# Altium footprint library TerminalBlock_Phoenix.PcbLib: 126 footprints (part 6 of 8)
Each footprint in its own frame and in the unit in brackets; x right, y up, seen from the top. Pads: shape width x height; smd on the part's side, far side on the other; paste and mask are expansions set on the pad; w line width, h text height; cw(c..) or ccw(c..) is an arc to the next point about the centre after c.
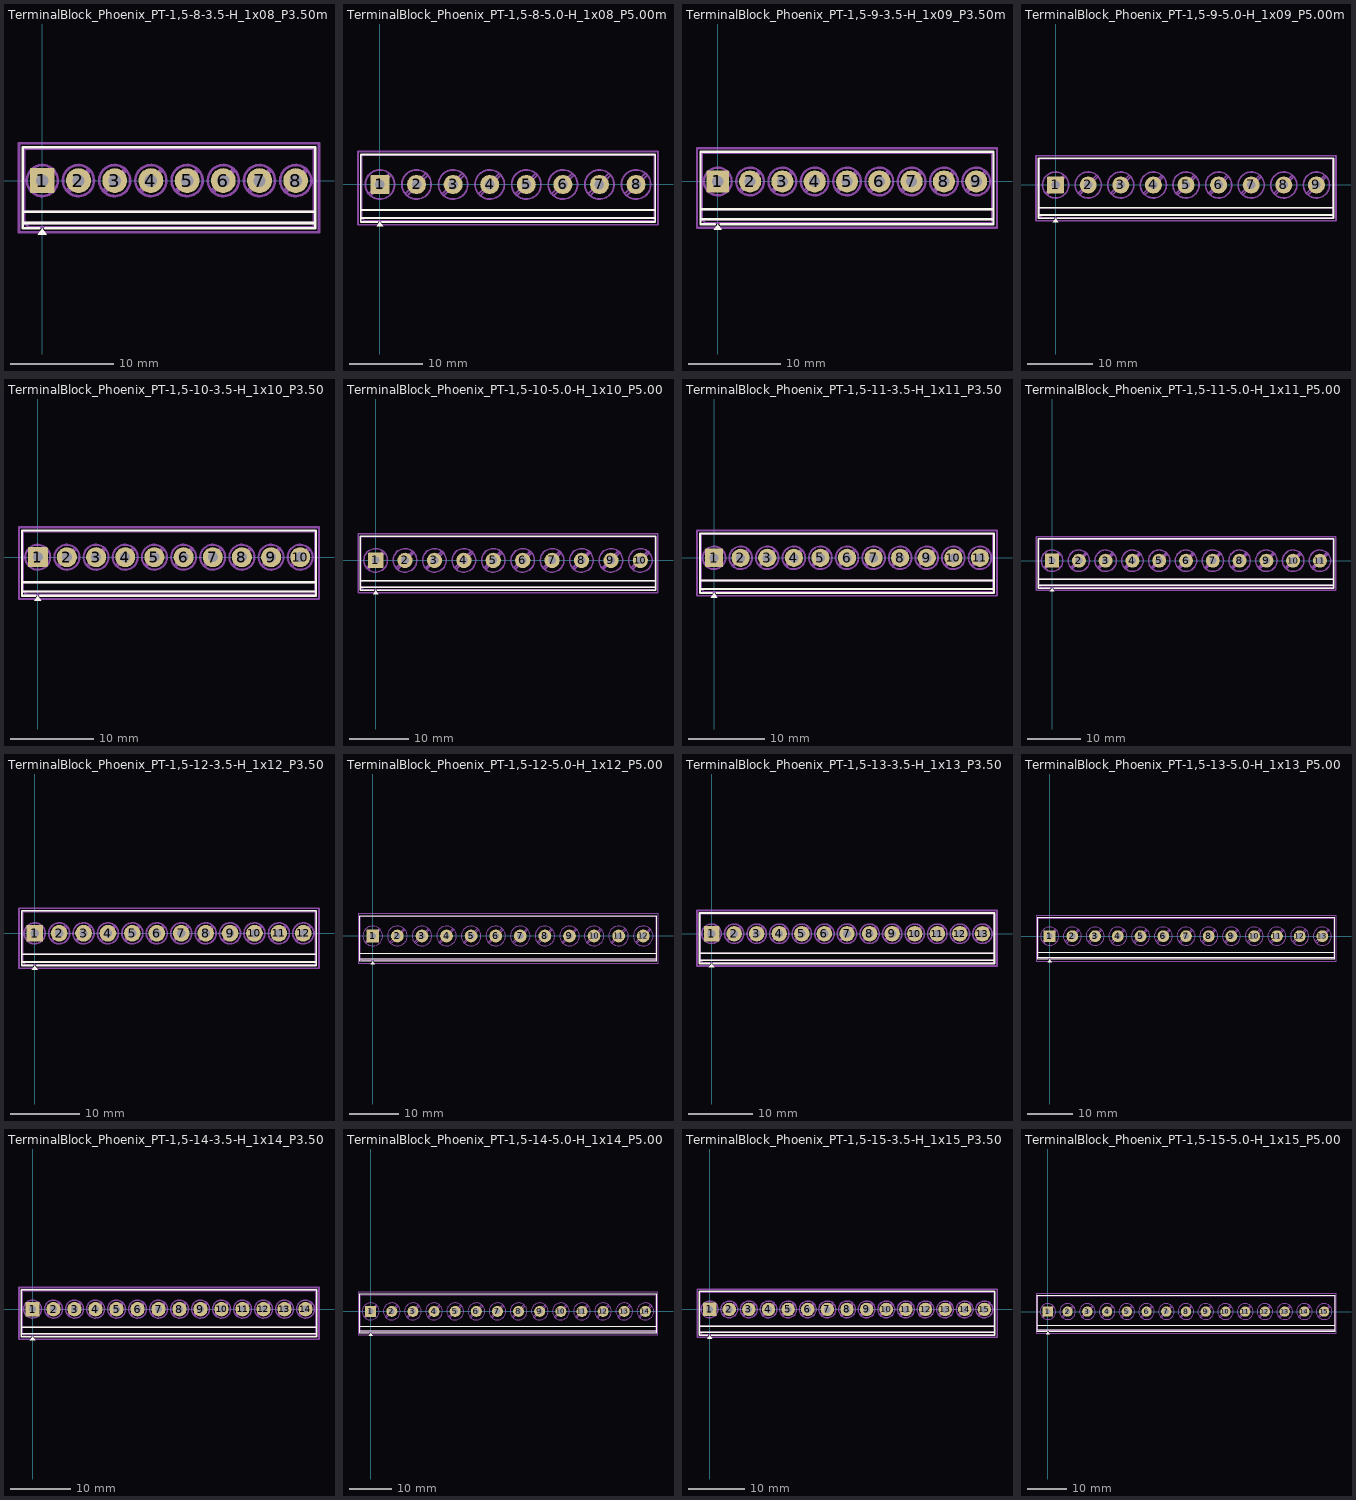
[diagram p5: the footprints below, top view; thin cyan lines are the x and y axes]

## TerminalBlock_Phoenix_PT-1,5-8-3.5-H_1x08_P3.50mm_Horizontal [mm]
pads (8):
  rrect10% 2.4x2.4 hole 1.2: 1(0,0)
  round 2.4 hole 1.2: 2(3.5,0) 3(7,0) 4(10.5,0) 5(14,0) 6(17.5,0) 7(21,0) 8(24.5,0)
F.SilkS:
  region: 0.44,-5.23 -0.44,-5.23 0,-4.62
  lines w0.254: -1.87,-4.1 26.37,-4.1 ; -1.87,-3 26.37,-3 ; -0.3,-4.62 -1.87,-4.62 -1.87,3.22 26.37,3.22 26.37,-4.62 0.3,-4.62
F.Fab:
  circle w0.254: c0,0 r1.5
  circle w0.254: c3.5,0 r1.5
  circle w0.254: c7,0 r1.5
  circle w0.254: c10.5,0 r1.5
  circle w0.254: c14,0 r1.5
  circle w0.254: c17.5,0 r1.5
  circle w0.254: c21,0 r1.5
  circle w0.254: c24.5,0 r1.5
  lines w0.254: -1.75,-3 26.25,-3 ; -1.138,-0.955 0.955,1.138 ; -0.955,-1.138 1.138,0.955 ; 2.362,-0.955 4.455,1.138 ; 2.545,-1.138 4.638,0.955 ; 5.862,-0.955 7.955,1.138 ; 6.045,-1.138 8.138,0.955 ; 9.362,-0.955 11.455,1.138 ; 9.545,-1.138 11.638,0.955 ; 12.862,-0.955 14.955,1.138 ; 13.045,-1.138 15.138,0.955 ; 16.362,-0.955 18.455,1.138 ; 16.545,-1.138 18.638,0.955 ; 19.862,-0.955 21.955,1.138 ; 20.045,-1.138 22.138,0.955 ; 23.362,-0.955 25.455,1.138 ; 23.545,-1.138 25.638,0.955 ; 26.25,-4.1 -1.75,-4.1 ; -1.75,-4.1 -1.75,3.1 26.25,3.1 26.25,-4.5 -1.35,-4.5 -1.75,-4.1
  text "'.Designator'" at 8.203,-3.24 h1
F.CrtYd:
  lines w0.254: -2.25,-5 -2.25,3.6 26.75,3.6 26.75,-5 -2.25,-5

## TerminalBlock_Phoenix_PT-1,5-8-5.0-H_1x08_P5.00mm_Horizontal [mm]
pads (8):
  rrect10% 2.6x2.6 hole 1.3: 1(0,0)
  round 2.6 hole 1.3: 2(5,0) 3(10,0) 4(15,0) 5(20,0) 6(25,0) 7(30,0) 8(35,0)
F.SilkS:
  region: 0.44,-5.73 -0.44,-5.73 0,-5.12
  lines w0.254: -2.62,-4.6 37.62,-4.6 ; -2.62,-3.5 37.62,-3.5 ; -0.3,-5.12 -2.62,-5.12 -2.62,4.12 37.62,4.12 37.62,-5.12 0.3,-5.12
F.Fab:
  circle w0.254: c0,0 r2
  circle w0.254: c5,0 r2
  circle w0.254: c10,0 r2
  circle w0.254: c15,0 r2
  circle w0.254: c20,0 r2
  circle w0.254: c25,0 r2
  circle w0.254: c30,0 r2
  circle w0.254: c35,0 r2
  lines w0.254: -2.5,-3.5 37.5,-3.5 ; -1.517,-1.273 1.273,1.517 ; -1.273,-1.517 1.517,1.273 ; 3.483,-1.273 6.273,1.517 ; 3.727,-1.517 6.517,1.273 ; 8.483,-1.273 11.273,1.517 ; 8.727,-1.517 11.517,1.273 ; 13.483,-1.273 16.273,1.517 ; 13.727,-1.517 16.517,1.273 ; 18.483,-1.273 21.273,1.517 ; 18.727,-1.517 21.517,1.273 ; 23.483,-1.273 26.273,1.517 ; 23.727,-1.517 26.517,1.273 ; 28.483,-1.273 31.273,1.517 ; 28.727,-1.517 31.517,1.273 ; 33.483,-1.273 36.273,1.517 ; 33.727,-1.517 36.517,1.273 ; 37.5,-4.6 -2.5,-4.6 ; -2.5,-4.6 -2.5,4 37.5,4 37.5,-5 -2.1,-5 -2.5,-4.6
  text "'.Designator'" at 13.453,-3.74 h1
F.CrtYd:
  lines w0.254: -3,-5.5 -3,4.5 38,4.5 38,-5.5 -3,-5.5

## TerminalBlock_Phoenix_PT-1,5-9-3.5-H_1x09_P3.50mm_Horizontal [mm]
pads (9):
  rrect10% 2.4x2.4 hole 1.2: 1(0,0)
  round 2.4 hole 1.2: 2(3.5,0) 3(7,0) 4(10.5,0) 5(14,0) 6(17.5,0) 7(21,0) 8(24.5,0) 9(28,0)
F.SilkS:
  region: 0.44,-5.23 -0.44,-5.23 0,-4.62
  lines w0.254: -1.87,-4.1 29.87,-4.1 ; -1.87,-3 29.87,-3 ; -0.3,-4.62 -1.87,-4.62 -1.87,3.22 29.87,3.22 29.87,-4.62 0.3,-4.62
F.Fab:
  circle w0.254: c0,0 r1.5
  circle w0.254: c3.5,0 r1.5
  circle w0.254: c7,0 r1.5
  circle w0.254: c10.5,0 r1.5
  circle w0.254: c14,0 r1.5
  circle w0.254: c17.5,0 r1.5
  circle w0.254: c21,0 r1.5
  circle w0.254: c24.5,0 r1.5
  circle w0.254: c28,0 r1.5
  lines w0.254: -1.75,-3 29.75,-3 ; -1.138,-0.955 0.955,1.138 ; -0.955,-1.138 1.138,0.955 ; 2.362,-0.955 4.455,1.138 ; 2.545,-1.138 4.638,0.955 ; 5.862,-0.955 7.955,1.138 ; 6.045,-1.138 8.138,0.955 ; 9.362,-0.955 11.455,1.138 ; 9.545,-1.138 11.638,0.955 ; 12.862,-0.955 14.955,1.138 ; 13.045,-1.138 15.138,0.955 ; 16.362,-0.955 18.455,1.138 ; 16.545,-1.138 18.638,0.955 ; 19.862,-0.955 21.955,1.138 ; 20.045,-1.138 22.138,0.955 ; 23.362,-0.955 25.455,1.138 ; 23.545,-1.138 25.638,0.955 ; 26.862,-0.955 28.955,1.138 ; 27.045,-1.138 29.138,0.955 ; 29.75,-4.1 -1.75,-4.1 ; -1.75,-4.1 -1.75,3.1 29.75,3.1 29.75,-4.5 -1.35,-4.5 -1.75,-4.1
  text "'.Designator'" at 9.953,-3.24 h1
F.CrtYd:
  lines w0.254: -2.25,-5 -2.25,3.6 30.25,3.6 30.25,-5 -2.25,-5

## TerminalBlock_Phoenix_PT-1,5-9-5.0-H_1x09_P5.00mm_Horizontal [mm]
pads (9):
  rrect10% 2.6x2.6 hole 1.3: 1(0,0)
  round 2.6 hole 1.3: 2(5,0) 3(10,0) 4(15,0) 5(20,0) 6(25,0) 7(30,0) 8(35,0) 9(40,0)
F.SilkS:
  region: 0.44,-5.73 -0.44,-5.73 0,-5.12
  lines w0.254: -2.62,-4.6 42.62,-4.6 ; -2.62,-3.5 42.62,-3.5 ; -0.3,-5.12 -2.62,-5.12 -2.62,4.12 42.62,4.12 42.62,-5.12 0.3,-5.12
F.Fab:
  circle w0.254: c0,0 r2
  circle w0.254: c5,0 r2
  circle w0.254: c10,0 r2
  circle w0.254: c15,0 r2
  circle w0.254: c20,0 r2
  circle w0.254: c25,0 r2
  circle w0.254: c30,0 r2
  circle w0.254: c35,0 r2
  circle w0.254: c40,0 r2
  lines w0.254: -2.5,-3.5 42.5,-3.5 ; -1.517,-1.273 1.273,1.517 ; -1.273,-1.517 1.517,1.273 ; 3.483,-1.273 6.273,1.517 ; 3.727,-1.517 6.517,1.273 ; 8.483,-1.273 11.273,1.517 ; 8.727,-1.517 11.517,1.273 ; 13.483,-1.273 16.273,1.517 ; 13.727,-1.517 16.517,1.273 ; 18.483,-1.273 21.273,1.517 ; 18.727,-1.517 21.517,1.273 ; 23.483,-1.273 26.273,1.517 ; 23.727,-1.517 26.517,1.273 ; 28.483,-1.273 31.273,1.517 ; 28.727,-1.517 31.517,1.273 ; 33.483,-1.273 36.273,1.517 ; 33.727,-1.517 36.517,1.273 ; 38.483,-1.273 41.273,1.517 ; 38.727,-1.517 41.517,1.273 ; 42.5,-4.6 -2.5,-4.6 ; -2.5,-4.6 -2.5,4 42.5,4 42.5,-5 -2.1,-5 -2.5,-4.6
  text "'.Designator'" at 15.953,-3.74 h1
F.CrtYd:
  lines w0.254: -3,-5.5 -3,4.5 43,4.5 43,-5.5 -3,-5.5

## TerminalBlock_Phoenix_PT-1,5-10-3.5-H_1x10_P3.50mm_Horizontal [mm]
pads (10):
  rrect10% 2.4x2.4 hole 1.2: 1(0,0)
  round 2.4 hole 1.2: 2(3.5,0) 3(7,0) 4(10.5,0) 5(14,0) 6(17.5,0) 7(21,0) 8(24.5,0) 9(28,0) 10(31.5,0)
F.SilkS:
  region: 0.44,-5.23 -0.44,-5.23 0,-4.62
  lines w0.254: -1.87,-4.1 33.37,-4.1 ; -1.87,-3 33.37,-3 ; -0.3,-4.62 -1.87,-4.62 -1.87,3.22 33.37,3.22 33.37,-4.62 0.3,-4.62
F.Fab:
  circle w0.254: c0,0 r1.5
  circle w0.254: c3.5,0 r1.5
  circle w0.254: c7,0 r1.5
  circle w0.254: c10.5,0 r1.5
  circle w0.254: c14,0 r1.5
  circle w0.254: c17.5,0 r1.5
  circle w0.254: c21,0 r1.5
  circle w0.254: c24.5,0 r1.5
  circle w0.254: c28,0 r1.5
  circle w0.254: c31.5,0 r1.5
  lines w0.254: -1.75,-3 33.25,-3 ; -1.138,-0.955 0.955,1.138 ; -0.955,-1.138 1.138,0.955 ; 2.362,-0.955 4.455,1.138 ; 2.545,-1.138 4.638,0.955 ; 5.862,-0.955 7.955,1.138 ; 6.045,-1.138 8.138,0.955 ; 9.362,-0.955 11.455,1.138 ; 9.545,-1.138 11.638,0.955 ; 12.862,-0.955 14.955,1.138 ; 13.045,-1.138 15.138,0.955 ; 16.362,-0.955 18.455,1.138 ; 16.545,-1.138 18.638,0.955 ; 19.862,-0.955 21.955,1.138 ; 20.045,-1.138 22.138,0.955 ; 23.362,-0.955 25.455,1.138 ; 23.545,-1.138 25.638,0.955 ; 26.862,-0.955 28.955,1.138 ; 27.045,-1.138 29.138,0.955 ; 30.362,-0.955 32.455,1.138 ; 30.545,-1.138 32.638,0.955 ; 33.25,-4.1 -1.75,-4.1 ; -1.75,-4.1 -1.75,3.1 33.25,3.1 33.25,-4.5 -1.35,-4.5 -1.75,-4.1
  text "'.Designator'" at 11.703,-3.24 h1
F.CrtYd:
  lines w0.254: -2.25,-5 -2.25,3.6 33.75,3.6 33.75,-5 -2.25,-5

## TerminalBlock_Phoenix_PT-1,5-10-5.0-H_1x10_P5.00mm_Horizontal [mm]
pads (10):
  rrect10% 2.6x2.6 hole 1.3: 1(0,0)
  round 2.6 hole 1.3: 2(5,0) 3(10,0) 4(15,0) 5(20,0) 6(25,0) 7(30,0) 8(35,0) 9(40,0) 10(45,0)
F.SilkS:
  region: 0.44,-5.73 -0.44,-5.73 0,-5.12
  lines w0.254: -2.62,-4.6 47.62,-4.6 ; -2.62,-3.5 47.62,-3.5 ; -0.3,-5.12 -2.62,-5.12 -2.62,4.12 47.62,4.12 47.62,-5.12 0.3,-5.12
F.Fab:
  circle w0.254: c0,0 r2
  circle w0.254: c5,0 r2
  circle w0.254: c10,0 r2
  circle w0.254: c15,0 r2
  circle w0.254: c20,0 r2
  circle w0.254: c25,0 r2
  circle w0.254: c30,0 r2
  circle w0.254: c35,0 r2
  circle w0.254: c40,0 r2
  circle w0.254: c45,0 r2
  lines w0.254: -2.5,-3.5 47.5,-3.5 ; -1.517,-1.273 1.273,1.517 ; -1.273,-1.517 1.517,1.273 ; 3.483,-1.273 6.273,1.517 ; 3.727,-1.517 6.517,1.273 ; 8.483,-1.273 11.273,1.517 ; 8.727,-1.517 11.517,1.273 ; 13.483,-1.273 16.273,1.517 ; 13.727,-1.517 16.517,1.273 ; 18.483,-1.273 21.273,1.517 ; 18.727,-1.517 21.517,1.273 ; 23.483,-1.273 26.273,1.517 ; 23.727,-1.517 26.517,1.273 ; 28.483,-1.273 31.273,1.517 ; 28.727,-1.517 31.517,1.273 ; 33.483,-1.273 36.273,1.517 ; 33.727,-1.517 36.517,1.273 ; 38.483,-1.273 41.273,1.517 ; 38.727,-1.517 41.517,1.273 ; 43.483,-1.273 46.273,1.517 ; 43.727,-1.517 46.517,1.273 ; 47.5,-4.6 -2.5,-4.6 ; -2.5,-4.6 -2.5,4 47.5,4 47.5,-5 -2.1,-5 -2.5,-4.6
  text "'.Designator'" at 18.453,-3.74 h1
F.CrtYd:
  lines w0.254: -3,-5.5 -3,4.5 48,4.5 48,-5.5 -3,-5.5

## TerminalBlock_Phoenix_PT-1,5-11-3.5-H_1x11_P3.50mm_Horizontal [mm]
pads (11):
  rrect10% 2.4x2.4 hole 1.2: 1(0,0)
  round 2.4 hole 1.2: 2(3.5,0) 3(7,0) 4(10.5,0) 5(14,0) 6(17.5,0) 7(21,0) 8(24.5,0) 9(28,0) 10(31.5,0) 11(35,0)
F.SilkS:
  region: 0.44,-5.23 -0.44,-5.23 0,-4.62
  lines w0.254: -1.87,-4.1 36.87,-4.1 ; -1.87,-3 36.87,-3 ; -0.3,-4.62 -1.87,-4.62 -1.87,3.22 36.87,3.22 36.87,-4.62 0.3,-4.62
F.Fab:
  circle w0.254: c0,0 r1.5
  circle w0.254: c3.5,0 r1.5
  circle w0.254: c7,0 r1.5
  circle w0.254: c10.5,0 r1.5
  circle w0.254: c14,0 r1.5
  circle w0.254: c17.5,0 r1.5
  circle w0.254: c21,0 r1.5
  circle w0.254: c24.5,0 r1.5
  circle w0.254: c28,0 r1.5
  circle w0.254: c31.5,0 r1.5
  circle w0.254: c35,0 r1.5
  lines w0.254: -1.75,-3 36.75,-3 ; -1.138,-0.955 0.955,1.138 ; -0.955,-1.138 1.138,0.955 ; 2.362,-0.955 4.455,1.138 ; 2.545,-1.138 4.638,0.955 ; 5.862,-0.955 7.955,1.138 ; 6.045,-1.138 8.138,0.955 ; 9.362,-0.955 11.455,1.138 ; 9.545,-1.138 11.638,0.955 ; 12.862,-0.955 14.955,1.138 ; 13.045,-1.138 15.138,0.955 ; 16.362,-0.955 18.455,1.138 ; 16.545,-1.138 18.638,0.955 ; 19.862,-0.955 21.955,1.138 ; 20.045,-1.138 22.138,0.955 ; 23.362,-0.955 25.455,1.138 ; 23.545,-1.138 25.638,0.955 ; 26.862,-0.955 28.955,1.138 ; 27.045,-1.138 29.138,0.955 ; 30.362,-0.955 32.455,1.138 ; 30.545,-1.138 32.638,0.955 ; 33.862,-0.955 35.955,1.138 ; 34.045,-1.138 36.138,0.955 ; 36.75,-4.1 -1.75,-4.1 ; -1.75,-4.1 -1.75,3.1 36.75,3.1 36.75,-4.5 -1.35,-4.5 -1.75,-4.1
  text "'.Designator'" at 13.453,-3.24 h1
F.CrtYd:
  lines w0.254: -2.25,-5 -2.25,3.6 37.25,3.6 37.25,-5 -2.25,-5

## TerminalBlock_Phoenix_PT-1,5-11-5.0-H_1x11_P5.00mm_Horizontal [mm]
pads (11):
  rrect10% 2.6x2.6 hole 1.3: 1(0,0)
  round 2.6 hole 1.3: 2(5,0) 3(10,0) 4(15,0) 5(20,0) 6(25,0) 7(30,0) 8(35,0) 9(40,0) 10(45,0) 11(50,0)
F.SilkS:
  region: 0.44,-5.73 -0.44,-5.73 0,-5.12
  lines w0.254: -2.62,-4.6 52.62,-4.6 ; -2.62,-3.5 52.62,-3.5 ; -0.3,-5.12 -2.62,-5.12 -2.62,4.12 52.62,4.12 52.62,-5.12 0.3,-5.12
F.Fab:
  circle w0.254: c0,0 r2
  circle w0.254: c5,0 r2
  circle w0.254: c10,0 r2
  circle w0.254: c15,0 r2
  circle w0.254: c20,0 r2
  circle w0.254: c25,0 r2
  circle w0.254: c30,0 r2
  circle w0.254: c35,0 r2
  circle w0.254: c40,0 r2
  circle w0.254: c45,0 r2
  circle w0.254: c50,0 r2
  lines w0.254: -2.5,-3.5 52.5,-3.5 ; -1.517,-1.273 1.273,1.517 ; -1.273,-1.517 1.517,1.273 ; 3.483,-1.273 6.273,1.517 ; 3.727,-1.517 6.517,1.273 ; 8.483,-1.273 11.273,1.517 ; 8.727,-1.517 11.517,1.273 ; 13.483,-1.273 16.273,1.517 ; 13.727,-1.517 16.517,1.273 ; 18.483,-1.273 21.273,1.517 ; 18.727,-1.517 21.517,1.273 ; 23.483,-1.273 26.273,1.517 ; 23.727,-1.517 26.517,1.273 ; 28.483,-1.273 31.273,1.517 ; 28.727,-1.517 31.517,1.273 ; 33.483,-1.273 36.273,1.517 ; 33.727,-1.517 36.517,1.273 ; 38.483,-1.273 41.273,1.517 ; 38.727,-1.517 41.517,1.273 ; 43.483,-1.273 46.273,1.517 ; 43.727,-1.517 46.517,1.273 ; 48.483,-1.273 51.273,1.517 ; 48.727,-1.517 51.517,1.273 ; 52.5,-4.6 -2.5,-4.6 ; -2.5,-4.6 -2.5,4 52.5,4 52.5,-5 -2.1,-5 -2.5,-4.6
  text "'.Designator'" at 20.953,-3.74 h1
F.CrtYd:
  lines w0.254: -3,-5.5 -3,4.5 53,4.5 53,-5.5 -3,-5.5

## TerminalBlock_Phoenix_PT-1,5-12-3.5-H_1x12_P3.50mm_Horizontal [mm]
pads (12):
  rrect10% 2.4x2.4 hole 1.2: 1(0,0)
  round 2.4 hole 1.2: 2(3.5,0) 3(7,0) 4(10.5,0) 5(14,0) 6(17.5,0) 7(21,0) 8(24.5,0) 9(28,0) 10(31.5,0) 11(35,0) 12(38.5,0)
F.SilkS:
  region: 0.44,-5.23 -0.44,-5.23 0,-4.62
  lines w0.254: -1.87,-4.1 40.37,-4.1 ; -1.87,-3 40.37,-3 ; -0.3,-4.62 -1.87,-4.62 -1.87,3.22 40.37,3.22 40.37,-4.62 0.3,-4.62
F.Fab:
  circle w0.254: c0,0 r1.5
  circle w0.254: c3.5,0 r1.5
  circle w0.254: c7,0 r1.5
  circle w0.254: c10.5,0 r1.5
  circle w0.254: c14,0 r1.5
  circle w0.254: c17.5,0 r1.5
  circle w0.254: c21,0 r1.5
  circle w0.254: c24.5,0 r1.5
  circle w0.254: c28,0 r1.5
  circle w0.254: c31.5,0 r1.5
  circle w0.254: c35,0 r1.5
  circle w0.254: c38.5,0 r1.5
  lines w0.254: -1.75,-3 40.25,-3 ; -1.138,-0.955 0.955,1.138 ; -0.955,-1.138 1.138,0.955 ; 2.362,-0.955 4.455,1.138 ; 2.545,-1.138 4.638,0.955 ; 5.862,-0.955 7.955,1.138 ; 6.045,-1.138 8.138,0.955 ; 9.362,-0.955 11.455,1.138 ; 9.545,-1.138 11.638,0.955 ; 12.862,-0.955 14.955,1.138 ; 13.045,-1.138 15.138,0.955 ; 16.362,-0.955 18.455,1.138 ; 16.545,-1.138 18.638,0.955 ; 19.862,-0.955 21.955,1.138 ; 20.045,-1.138 22.138,0.955 ; 23.362,-0.955 25.455,1.138 ; 23.545,-1.138 25.638,0.955 ; 26.862,-0.955 28.955,1.138 ; 27.045,-1.138 29.138,0.955 ; 30.362,-0.955 32.455,1.138 ; 30.545,-1.138 32.638,0.955 ; 33.862,-0.955 35.955,1.138 ; 34.045,-1.138 36.138,0.955 ; 37.362,-0.955 39.455,1.138 ; 37.545,-1.138 39.638,0.955 ; 40.25,-4.1 -1.75,-4.1 ; -1.75,-4.1 -1.75,3.1 40.25,3.1 40.25,-4.5 -1.35,-4.5 -1.75,-4.1
  text "'.Designator'" at 15.203,-3.24 h1
F.CrtYd:
  lines w0.254: -2.25,-5 -2.25,3.6 40.75,3.6 40.75,-5 -2.25,-5

## TerminalBlock_Phoenix_PT-1,5-12-5.0-H_1x12_P5.00mm_Horizontal [mm]
pads (12):
  rrect10% 2.6x2.6 hole 1.3: 1(0,0)
  round 2.6 hole 1.3: 2(5,0) 3(10,0) 4(15,0) 5(20,0) 6(25,0) 7(30,0) 8(35,0) 9(40,0) 10(45,0) 11(50,0) 12(55,0)
F.SilkS:
  region: 0.44,-5.73 -0.44,-5.73 0,-5.12
  lines w0.254: -2.62,-4.6 57.62,-4.6 ; -2.62,-3.5 57.62,-3.5 ; -0.3,-5.12 -2.62,-5.12 -2.62,4.12 57.62,4.12 57.62,-5.12 0.3,-5.12
F.Fab:
  circle w0.254: c0,0 r2
  circle w0.254: c5,0 r2
  circle w0.254: c10,0 r2
  circle w0.254: c15,0 r2
  circle w0.254: c20,0 r2
  circle w0.254: c25,0 r2
  circle w0.254: c30,0 r2
  circle w0.254: c35,0 r2
  circle w0.254: c40,0 r2
  circle w0.254: c45,0 r2
  circle w0.254: c50,0 r2
  circle w0.254: c55,0 r2
  lines w0.254: -2.5,-3.5 57.5,-3.5 ; -1.517,-1.273 1.273,1.517 ; -1.273,-1.517 1.517,1.273 ; 3.483,-1.273 6.273,1.517 ; 3.727,-1.517 6.517,1.273 ; 8.483,-1.273 11.273,1.517 ; 8.727,-1.517 11.517,1.273 ; 13.483,-1.273 16.273,1.517 ; 13.727,-1.517 16.517,1.273 ; 18.483,-1.273 21.273,1.517 ; 18.727,-1.517 21.517,1.273 ; 23.483,-1.273 26.273,1.517 ; 23.727,-1.517 26.517,1.273 ; 28.483,-1.273 31.273,1.517 ; 28.727,-1.517 31.517,1.273 ; 33.483,-1.273 36.273,1.517 ; 33.727,-1.517 36.517,1.273 ; 38.483,-1.273 41.273,1.517 ; 38.727,-1.517 41.517,1.273 ; 43.483,-1.273 46.273,1.517 ; 43.727,-1.517 46.517,1.273 ; 48.483,-1.273 51.273,1.517 ; 48.727,-1.517 51.517,1.273 ; 53.483,-1.273 56.273,1.517 ; 53.727,-1.517 56.517,1.273 ; 57.5,-4.6 -2.5,-4.6 ; -2.5,-4.6 -2.5,4 57.5,4 57.5,-5 -2.1,-5 -2.5,-4.6
  text "'.Designator'" at 23.453,-3.74 h1
F.CrtYd:
  lines w0.254: -3,-5.5 -3,4.5 58,4.5 58,-5.5 -3,-5.5

## TerminalBlock_Phoenix_PT-1,5-13-3.5-H_1x13_P3.50mm_Horizontal [mm]
pads (13):
  rrect10% 2.4x2.4 hole 1.2: 1(0,0)
  round 2.4 hole 1.2: 2(3.5,0) 3(7,0) 4(10.5,0) 5(14,0) 6(17.5,0) 7(21,0) 8(24.5,0) 9(28,0) 10(31.5,0) 11(35,0) 12(38.5,0) 13(42,0)
F.SilkS:
  region: 0.44,-5.23 -0.44,-5.23 0,-4.62
  lines w0.254: -1.87,-4.1 43.87,-4.1 ; -1.87,-3 43.87,-3 ; -0.3,-4.62 -1.87,-4.62 -1.87,3.22 43.87,3.22 43.87,-4.62 0.3,-4.62
F.Fab:
  circle w0.254: c0,0 r1.5
  circle w0.254: c3.5,0 r1.5
  circle w0.254: c7,0 r1.5
  circle w0.254: c10.5,0 r1.5
  circle w0.254: c14,0 r1.5
  circle w0.254: c17.5,0 r1.5
  circle w0.254: c21,0 r1.5
  circle w0.254: c24.5,0 r1.5
  circle w0.254: c28,0 r1.5
  circle w0.254: c31.5,0 r1.5
  circle w0.254: c35,0 r1.5
  circle w0.254: c38.5,0 r1.5
  circle w0.254: c42,0 r1.5
  lines w0.254: -1.75,-3 43.75,-3 ; -1.138,-0.955 0.955,1.138 ; -0.955,-1.138 1.138,0.955 ; 2.362,-0.955 4.455,1.138 ; 2.545,-1.138 4.638,0.955 ; 5.862,-0.955 7.955,1.138 ; 6.045,-1.138 8.138,0.955 ; 9.362,-0.955 11.455,1.138 ; 9.545,-1.138 11.638,0.955 ; 12.862,-0.955 14.955,1.138 ; 13.045,-1.138 15.138,0.955 ; 16.362,-0.955 18.455,1.138 ; 16.545,-1.138 18.638,0.955 ; 19.862,-0.955 21.955,1.138 ; 20.045,-1.138 22.138,0.955 ; 23.362,-0.955 25.455,1.138 ; 23.545,-1.138 25.638,0.955 ; 26.862,-0.955 28.955,1.138 ; 27.045,-1.138 29.138,0.955 ; 30.362,-0.955 32.455,1.138 ; 30.545,-1.138 32.638,0.955 ; 33.862,-0.955 35.955,1.138 ; 34.045,-1.138 36.138,0.955 ; 37.362,-0.955 39.455,1.138 ; 37.545,-1.138 39.638,0.955 ; 40.862,-0.955 42.955,1.138 ; 41.045,-1.138 43.138,0.955 ; 43.75,-4.1 -1.75,-4.1 ; -1.75,-4.1 -1.75,3.1 43.75,3.1 43.75,-4.5 -1.35,-4.5 -1.75,-4.1
  text "'.Designator'" at 16.953,-3.24 h1
F.CrtYd:
  lines w0.254: -2.25,-5 -2.25,3.6 44.25,3.6 44.25,-5 -2.25,-5

## TerminalBlock_Phoenix_PT-1,5-13-5.0-H_1x13_P5.00mm_Horizontal [mm]
pads (13):
  rrect10% 2.6x2.6 hole 1.3: 1(0,0)
  round 2.6 hole 1.3: 2(5,0) 3(10,0) 4(15,0) 5(20,0) 6(25,0) 7(30,0) 8(35,0) 9(40,0) 10(45,0) 11(50,0) 12(55,0) 13(60,0)
F.SilkS:
  region: 0.44,-5.73 -0.44,-5.73 0,-5.12
  lines w0.254: -2.62,-4.6 62.62,-4.6 ; -2.62,-3.5 62.62,-3.5 ; -0.3,-5.12 -2.62,-5.12 -2.62,4.12 62.62,4.12 62.62,-5.12 0.3,-5.12
F.Fab:
  circle w0.254: c0,0 r2
  circle w0.254: c5,0 r2
  circle w0.254: c10,0 r2
  circle w0.254: c15,0 r2
  circle w0.254: c20,0 r2
  circle w0.254: c25,0 r2
  circle w0.254: c30,0 r2
  circle w0.254: c35,0 r2
  circle w0.254: c40,0 r2
  circle w0.254: c45,0 r2
  circle w0.254: c50,0 r2
  circle w0.254: c55,0 r2
  circle w0.254: c60,0 r2
  lines w0.254: -2.5,-3.5 62.5,-3.5 ; -1.517,-1.273 1.273,1.517 ; -1.273,-1.517 1.517,1.273 ; 3.483,-1.273 6.273,1.517 ; 3.727,-1.517 6.517,1.273 ; 8.483,-1.273 11.273,1.517 ; 8.727,-1.517 11.517,1.273 ; 13.483,-1.273 16.273,1.517 ; 13.727,-1.517 16.517,1.273 ; 18.483,-1.273 21.273,1.517 ; 18.727,-1.517 21.517,1.273 ; 23.483,-1.273 26.273,1.517 ; 23.727,-1.517 26.517,1.273 ; 28.483,-1.273 31.273,1.517 ; 28.727,-1.517 31.517,1.273 ; 33.483,-1.273 36.273,1.517 ; 33.727,-1.517 36.517,1.273 ; 38.483,-1.273 41.273,1.517 ; 38.727,-1.517 41.517,1.273 ; 43.483,-1.273 46.273,1.517 ; 43.727,-1.517 46.517,1.273 ; 48.483,-1.273 51.273,1.517 ; 48.727,-1.517 51.517,1.273 ; 53.483,-1.273 56.273,1.517 ; 53.727,-1.517 56.517,1.273 ; 58.483,-1.273 61.273,1.517 ; 58.727,-1.517 61.517,1.273 ; 62.5,-4.6 -2.5,-4.6 ; -2.5,-4.6 -2.5,4 62.5,4 62.5,-5 -2.1,-5 -2.5,-4.6
  text "'.Designator'" at 25.953,-3.74 h1
F.CrtYd:
  lines w0.254: -3,-5.5 -3,4.5 63,4.5 63,-5.5 -3,-5.5

## TerminalBlock_Phoenix_PT-1,5-14-3.5-H_1x14_P3.50mm_Horizontal [mm]
pads (14):
  rrect10% 2.4x2.4 hole 1.2: 1(0,0)
  round 2.4 hole 1.2: 2(3.5,0) 3(7,0) 4(10.5,0) 5(14,0) 6(17.5,0) 7(21,0) 8(24.5,0) 9(28,0) 10(31.5,0) 11(35,0) 12(38.5,0) 13(42,0) 14(45.5,0)
F.SilkS:
  region: 0.44,-5.23 -0.44,-5.23 0,-4.62
  lines w0.254: -1.87,-4.1 47.37,-4.1 ; -1.87,-3 47.37,-3 ; -0.3,-4.62 -1.87,-4.62 -1.87,3.22 47.37,3.22 47.37,-4.62 0.3,-4.62
F.Fab:
  circle w0.254: c0,0 r1.5
  circle w0.254: c3.5,0 r1.5
  circle w0.254: c7,0 r1.5
  circle w0.254: c10.5,0 r1.5
  circle w0.254: c14,0 r1.5
  circle w0.254: c17.5,0 r1.5
  circle w0.254: c21,0 r1.5
  circle w0.254: c24.5,0 r1.5
  circle w0.254: c28,0 r1.5
  circle w0.254: c31.5,0 r1.5
  circle w0.254: c35,0 r1.5
  circle w0.254: c38.5,0 r1.5
  circle w0.254: c42,0 r1.5
  circle w0.254: c45.5,0 r1.5
  lines w0.254: -1.75,-3 47.25,-3 ; -1.138,-0.955 0.955,1.138 ; -0.955,-1.138 1.138,0.955 ; 2.362,-0.955 4.455,1.138 ; 2.545,-1.138 4.638,0.955 ; 5.862,-0.955 7.955,1.138 ; 6.045,-1.138 8.138,0.955 ; 9.362,-0.955 11.455,1.138 ; 9.545,-1.138 11.638,0.955 ; 12.862,-0.955 14.955,1.138 ; 13.045,-1.138 15.138,0.955 ; 16.362,-0.955 18.455,1.138 ; 16.545,-1.138 18.638,0.955 ; 19.862,-0.955 21.955,1.138 ; 20.045,-1.138 22.138,0.955 ; 23.362,-0.955 25.455,1.138 ; 23.545,-1.138 25.638,0.955 ; 26.862,-0.955 28.955,1.138 ; 27.045,-1.138 29.138,0.955 ; 30.362,-0.955 32.455,1.138 ; 30.545,-1.138 32.638,0.955 ; 33.862,-0.955 35.955,1.138 ; 34.045,-1.138 36.138,0.955 ; 37.362,-0.955 39.455,1.138 ; 37.545,-1.138 39.638,0.955 ; 40.862,-0.955 42.955,1.138 ; 41.045,-1.138 43.138,0.955 ; 44.362,-0.955 46.455,1.138 ; 44.545,-1.138 46.638,0.955 ; 47.25,-4.1 -1.75,-4.1 ; -1.75,-4.1 -1.75,3.1 47.25,3.1 47.25,-4.5 -1.35,-4.5 -1.75,-4.1
  text "'.Designator'" at 18.703,-3.24 h1
F.CrtYd:
  lines w0.254: -2.25,-5 -2.25,3.6 47.75,3.6 47.75,-5 -2.25,-5

## TerminalBlock_Phoenix_PT-1,5-14-5.0-H_1x14_P5.00mm_Horizontal [mm]
pads (14):
  rrect10% 2.6x2.6 hole 1.3: 1(0,0)
  round 2.6 hole 1.3: 2(5,0) 3(10,0) 4(15,0) 5(20,0) 6(25,0) 7(30,0) 8(35,0) 9(40,0) 10(45,0) 11(50,0) 12(55,0) 13(60,0) 14(65,0)
F.SilkS:
  region: 0.44,-5.73 -0.44,-5.73 0,-5.12
  lines w0.254: -2.62,-4.6 67.62,-4.6 ; -2.62,-3.5 67.62,-3.5 ; -0.3,-5.12 -2.62,-5.12 -2.62,4.12 67.62,4.12 67.62,-5.12 0.3,-5.12
F.Fab:
  circle w0.254: c0,0 r2
  circle w0.254: c5,0 r2
  circle w0.254: c10,0 r2
  circle w0.254: c15,0 r2
  circle w0.254: c20,0 r2
  circle w0.254: c25,0 r2
  circle w0.254: c30,0 r2
  circle w0.254: c35,0 r2
  circle w0.254: c40,0 r2
  circle w0.254: c45,0 r2
  circle w0.254: c50,0 r2
  circle w0.254: c55,0 r2
  circle w0.254: c60,0 r2
  circle w0.254: c65,0 r2
  lines w0.254: -2.5,-3.5 67.5,-3.5 ; -1.517,-1.273 1.273,1.517 ; -1.273,-1.517 1.517,1.273 ; 3.483,-1.273 6.273,1.517 ; 3.727,-1.517 6.517,1.273 ; 8.483,-1.273 11.273,1.517 ; 8.727,-1.517 11.517,1.273 ; 13.483,-1.273 16.273,1.517 ; 13.727,-1.517 16.517,1.273 ; 18.483,-1.273 21.273,1.517 ; 18.727,-1.517 21.517,1.273 ; 23.483,-1.273 26.273,1.517 ; 23.727,-1.517 26.517,1.273 ; 28.483,-1.273 31.273,1.517 ; 28.727,-1.517 31.517,1.273 ; 33.483,-1.273 36.273,1.517 ; 33.727,-1.517 36.517,1.273 ; 38.483,-1.273 41.273,1.517 ; 38.727,-1.517 41.517,1.273 ; 43.483,-1.273 46.273,1.517 ; 43.727,-1.517 46.517,1.273 ; 48.483,-1.273 51.273,1.517 ; 48.727,-1.517 51.517,1.273 ; 53.483,-1.273 56.273,1.517 ; 53.727,-1.517 56.517,1.273 ; 58.483,-1.273 61.273,1.517 ; 58.727,-1.517 61.517,1.273 ; 63.483,-1.273 66.273,1.517 ; 63.727,-1.517 66.517,1.273 ; 67.5,-4.6 -2.5,-4.6 ; -2.5,-4.6 -2.5,4 67.5,4 67.5,-5 -2.1,-5 -2.5,-4.6
  text "'.Designator'" at 28.453,-3.74 h1
F.CrtYd:
  lines w0.254: -3,-5.5 -3,4.5 68,4.5 68,-5.5 -3,-5.5

## TerminalBlock_Phoenix_PT-1,5-15-3.5-H_1x15_P3.50mm_Horizontal [mm]
pads (15):
  rrect10% 2.4x2.4 hole 1.2: 1(0,0)
  round 2.4 hole 1.2: 2(3.5,0) 3(7,0) 4(10.5,0) 5(14,0) 6(17.5,0) 7(21,0) 8(24.5,0) 9(28,0) 10(31.5,0) 11(35,0) 12(38.5,0) 13(42,0) 14(45.5,0) 15(49,0)
F.SilkS:
  region: 0.44,-5.23 -0.44,-5.23 0,-4.62
  lines w0.254: -1.87,-4.1 50.87,-4.1 ; -1.87,-3 50.87,-3 ; -0.3,-4.62 -1.87,-4.62 -1.87,3.22 50.87,3.22 50.87,-4.62 0.3,-4.62
F.Fab:
  circle w0.254: c0,0 r1.5
  circle w0.254: c3.5,0 r1.5
  circle w0.254: c7,0 r1.5
  circle w0.254: c10.5,0 r1.5
  circle w0.254: c14,0 r1.5
  circle w0.254: c17.5,0 r1.5
  circle w0.254: c21,0 r1.5
  circle w0.254: c24.5,0 r1.5
  circle w0.254: c28,0 r1.5
  circle w0.254: c31.5,0 r1.5
  circle w0.254: c35,0 r1.5
  circle w0.254: c38.5,0 r1.5
  circle w0.254: c42,0 r1.5
  circle w0.254: c45.5,0 r1.5
  circle w0.254: c49,0 r1.5
  lines w0.254: -1.75,-3 50.75,-3 ; -1.138,-0.955 0.955,1.138 ; -0.955,-1.138 1.138,0.955 ; 2.362,-0.955 4.455,1.138 ; 2.545,-1.138 4.638,0.955 ; 5.862,-0.955 7.955,1.138 ; 6.045,-1.138 8.138,0.955 ; 9.362,-0.955 11.455,1.138 ; 9.545,-1.138 11.638,0.955 ; 12.862,-0.955 14.955,1.138 ; 13.045,-1.138 15.138,0.955 ; 16.362,-0.955 18.455,1.138 ; 16.545,-1.138 18.638,0.955 ; 19.862,-0.955 21.955,1.138 ; 20.045,-1.138 22.138,0.955 ; 23.362,-0.955 25.455,1.138 ; 23.545,-1.138 25.638,0.955 ; 26.862,-0.955 28.955,1.138 ; 27.045,-1.138 29.138,0.955 ; 30.362,-0.955 32.455,1.138 ; 30.545,-1.138 32.638,0.955 ; 33.862,-0.955 35.955,1.138 ; 34.045,-1.138 36.138,0.955 ; 37.362,-0.955 39.455,1.138 ; 37.545,-1.138 39.638,0.955 ; 40.862,-0.955 42.955,1.138 ; 41.045,-1.138 43.138,0.955 ; 44.362,-0.955 46.455,1.138 ; 44.545,-1.138 46.638,0.955 ; 47.862,-0.955 49.955,1.138 ; 48.045,-1.138 50.138,0.955 ; 50.75,-4.1 -1.75,-4.1 ; -1.75,-4.1 -1.75,3.1 50.75,3.1 50.75,-4.5 -1.35,-4.5 -1.75,-4.1
  text "'.Designator'" at 20.453,-3.24 h1
F.CrtYd:
  lines w0.254: -2.25,-5 -2.25,3.6 51.25,3.6 51.25,-5 -2.25,-5

## TerminalBlock_Phoenix_PT-1,5-15-5.0-H_1x15_P5.00mm_Horizontal [mm]
pads (15):
  rrect10% 2.6x2.6 hole 1.3: 1(0,0)
  round 2.6 hole 1.3: 2(5,0) 3(10,0) 4(15,0) 5(20,0) 6(25,0) 7(30,0) 8(35,0) 9(40,0) 10(45,0) 11(50,0) 12(55,0) 13(60,0) 14(65,0) 15(70,0)
F.SilkS:
  region: 0.44,-5.73 -0.44,-5.73 0,-5.12
  lines w0.254: -2.62,-4.6 72.62,-4.6 ; -2.62,-3.5 72.62,-3.5 ; -0.3,-5.12 -2.62,-5.12 -2.62,4.12 72.62,4.12 72.62,-5.12 0.3,-5.12
F.Fab:
  circle w0.254: c0,0 r2
  circle w0.254: c5,0 r2
  circle w0.254: c10,0 r2
  circle w0.254: c15,0 r2
  circle w0.254: c20,0 r2
  circle w0.254: c25,0 r2
  circle w0.254: c30,0 r2
  circle w0.254: c35,0 r2
  circle w0.254: c40,0 r2
  circle w0.254: c45,0 r2
  circle w0.254: c50,0 r2
  circle w0.254: c55,0 r2
  circle w0.254: c60,0 r2
  circle w0.254: c65,0 r2
  circle w0.254: c70,0 r2
  lines w0.254: -2.5,-3.5 72.5,-3.5 ; -1.517,-1.273 1.273,1.517 ; -1.273,-1.517 1.517,1.273 ; 3.483,-1.273 6.273,1.517 ; 3.727,-1.517 6.517,1.273 ; 8.483,-1.273 11.273,1.517 ; 8.727,-1.517 11.517,1.273 ; 13.483,-1.273 16.273,1.517 ; 13.727,-1.517 16.517,1.273 ; 18.483,-1.273 21.273,1.517 ; 18.727,-1.517 21.517,1.273 ; 23.483,-1.273 26.273,1.517 ; 23.727,-1.517 26.517,1.273 ; 28.483,-1.273 31.273,1.517 ; 28.727,-1.517 31.517,1.273 ; 33.483,-1.273 36.273,1.517 ; 33.727,-1.517 36.517,1.273 ; 38.483,-1.273 41.273,1.517 ; 38.727,-1.517 41.517,1.273 ; 43.483,-1.273 46.273,1.517 ; 43.727,-1.517 46.517,1.273 ; 48.483,-1.273 51.273,1.517 ; 48.727,-1.517 51.517,1.273 ; 53.483,-1.273 56.273,1.517 ; 53.727,-1.517 56.517,1.273 ; 58.483,-1.273 61.273,1.517 ; 58.727,-1.517 61.517,1.273 ; 63.483,-1.273 66.273,1.517 ; 63.727,-1.517 66.517,1.273 ; 68.483,-1.273 71.273,1.517 ; 68.727,-1.517 71.517,1.273 ; 72.5,-4.6 -2.5,-4.6 ; -2.5,-4.6 -2.5,4 72.5,4 72.5,-5 -2.1,-5 -2.5,-4.6
  text "'.Designator'" at 30.953,-3.74 h1
F.CrtYd:
  lines w0.254: -3,-5.5 -3,4.5 73,4.5 73,-5.5 -3,-5.5